# Altium footprint library XT-60.PcbLib: 1 footprints
Each footprint in its own frame and in the unit in brackets; x right, y up, seen from the top. Pads: shape width x height; smd on the part's side, far side on the other; paste and mask are expansions set on the pad; w line width, h text height; cw(c..) or ccw(c..) is an arc to the next point about the centre after c.
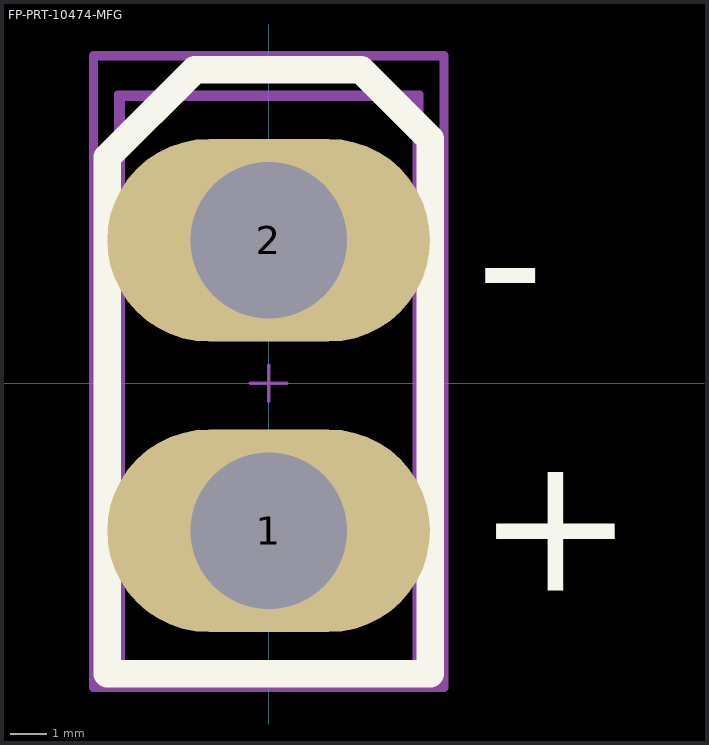
[diagram p0: the footprint, top view; thin cyan lines are the x and y axes]

## FP-PRT-10474-MFG [mil]
pads (2):
  oval 350x220 hole 170: 1(0,-160) 2(0,155)
Top Overlay:
  lines w30: -175,-315 175,-315 175,265 100,340 -80,340 -175,245 -175,-315
  text "+" at 225,-224.99 h150
  text "-" at 225,60.02 h150
Board Outline:
  lines w10: -190,-330 190,-330 190,355 -190,355 -190,-330
Top Assembly:
  lines w7.87: -163.94,-313.68 -163.94,313.68 163.94,313.68 163.94,-313.68 -163.94,-313.68
Top 3D Body:
  lines w7.87: -160,-309.74 -160,309.74 160,309.74 160,-309.74 -160,-309.74
Top Courtyard:
  lines w7.87: -163.94,-313.68 -163.94,313.68 163.94,313.68 163.94,-313.68 -163.94,-313.68
Top Component Center:
  lines w3.94: -19.68,0 19.68,0 ; 0,-19.68 0,19.68
3D body "Conn_SparkFun_PRT-10474_eec.STEP": height 1437.13, standoff -140, extent -160,-309.74 160.02,309.74